# EAGLE library part JST-SH-8 (library NixieDisplay)
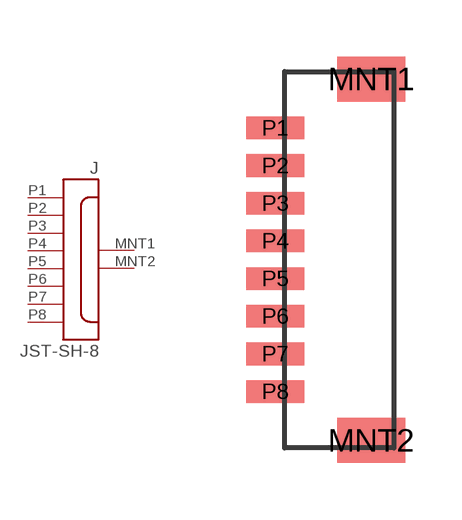
[diagram p5: symbol with the pads of JST-SH-8; footprint JST-SH-8]

Designator prefix J

## JST-SH-8  [JST-SH-8]
MNT1  MNT1  sup
MNT2  MNT2  sup
P1  1  pas
P2  2  pas
P3  3  pas
P4  4  pas
P5  5  pas
P6  6  pas
P7  7  pas
P8  8  pas

## Footprint JST-SH-8 (pad centres in mm)
smd 1.8 x 1.2: MNT1 2.55,4.8; MNT2 2.55,-4.8
smd 1.55 x 0.6: P1 0,3.5; P2 0,2.5; P3 0,1.5; P4 0,0.5; P5 0,-0.5; P6 0,-1.5; P7 0,-2.5; P8 0,-3.5